# Altium footprint library DRQ.PcbLib: 2 footprints
Each footprint in its own frame and in the unit in brackets; x right, y up, seen from the top. Pads: shape width x height; smd on the part's side, far side on the other; paste and mask are expansions set on the pad; w line width, h text height; cw(c..) or ccw(c..) is an arc to the next point about the centre after c.
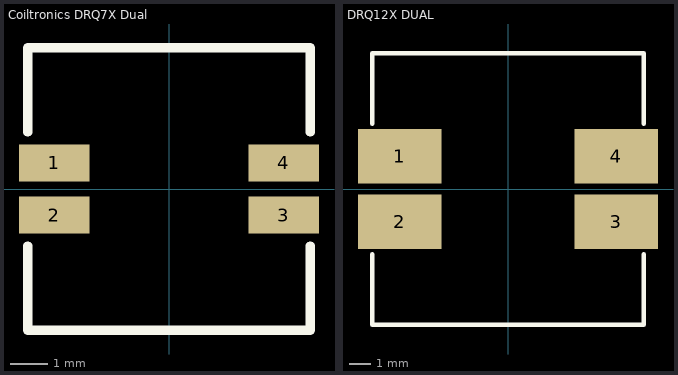
[diagram p0: the footprints below, top view; thin cyan lines are the x and y axes]

## Coiltronics DRQ7X Dual [mm] "Cooper Bussmann Coiltronics DRQ Inductor (Dual Inductor Mode)"
height 4.45
pads (4):
  rect 1.9x1 smd: 1(-3.085,0.7) 2(-3.085,-0.7) 3(3.085,-0.7) 4(3.085,0.7)
Top Overlay:
  lines w0.254: -3.8,-1.534 -3.8,-3.8 3.8,-3.8 3.8,-1.534 ; -3.8,1.534 -3.8,3.8 3.8,3.8 3.8,1.534
3D body: height 4, standoff 0, extent -3.807,-3.804 3.808,3.81
3D body: height 4.45, standoff 1, extent -2.893,-2.893 2.893,2.893

## DRQ12X DUAL [mm]
height 8
pads (4):
  rect 3.85x2.5 smd: 1(-4.975,1.5) 2(-4.975,-1.5) 3(4.975,-1.5) 4(4.975,1.5)
Top Overlay:
  lines w0.203: -6.25,-3 -6.25,-6.25 6.25,-6.25 6.25,-3 ; -6.25,3 -6.25,6.25 6.25,6.25 6.25,3
3D body: height 8, standoff 0, extent -4.98,-4.975 4.98,5.005
3D body: height 7.5, standoff 0, extent -6.26,-6.26 6.26,6.26